# EAGLE library part ESP8266_WI07C (library esp8266_wio7c_breakout)
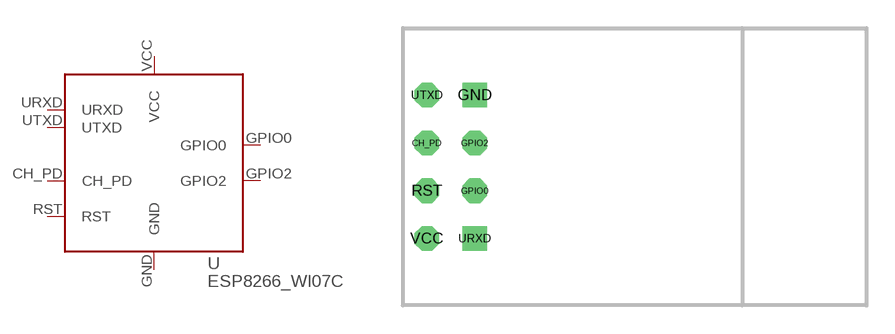
[diagram p0: symbol with the pads of ESP8266_WI07C; footprint ESP8266_WI07C]

Designator prefix -

## ESP8266_WI07C  [ESP8266_WI07C]
CH_PD  CH_PD  in
GND  GND  sup
GPIO0  GPIO0
GPIO2  GPIO2
RST  RST  in
URXD  URXD  in
UTXD  UTXD  out
VCC  VCC  sup

## Footprint ESP8266_WI07C (pad centres in mm)
drill 0.8 octagon: CH_PD 1.27,6.35; GPIO0 3.81,3.81; GPIO2 3.81,6.35; RST 1.27,3.81; UTXD 1.27,8.89; VCC 1.27,1.27
drill 0.8 square: GND 3.81,8.89; URXD 3.81,1.27